# Altium schematic symbol library Amplify.SchLib: 6 symbols
Pins are listed as number, name and electrical type; pins without a type are passive.

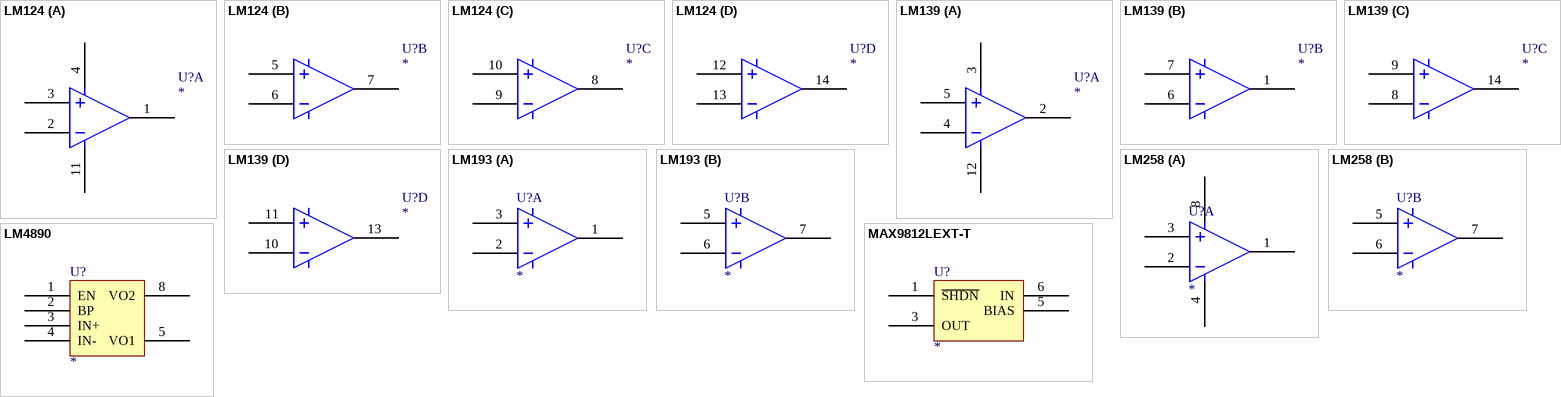
[diagram p0: symbols LM124 to MAX9812LEXT-T]

## LM124
designator U?
footprint DIP-14
part A pins: 1, 2, 3, 4, 11
part B pins: 5, 6, 7
part C pins: 8, 9, 10
part D pins: 12, 13, 14
2 alternate drawings of the same symbol

## LM139
designator U?
footprint DIP-14
part A pins: 2, 3, 4, 5, 12
part B pins: 1, 6, 7
part C pins: 8, 9, 14
part D pins: 10, 11, 13
2 alternate drawings of the same symbol

## LM193
designator U?
footprint DIP-8
part A pins: 1, 2, 3, 4 GND (power) hidden to GND, 8 VCC (power) hidden to VCC
part B pins: 5, 6, 7
2 alternate drawings of the same symbol

## LM258
designator U?
footprint DIP-8
footprint SOP-8
part A pins: 1, 2, 3, 4 GND (power) hidden to GND, 8 VCC (power) hidden to VCC
part B pins: 5, 6, 7
2 alternate drawings of the same symbol

## LM4890
designator U?
footprint SOP-8
pins: 1 EN, 2 BP, 3 IN+, 4 IN-, 5 VO1, 6 VCC hidden to VCC, 7 GND hidden to GND, 8 VO2
2 alternate drawings of the same symbol

## MAX9812LEXT-T
designator U?
footprint SC70-6
pins: 1 ~{SHDN}, 2 GND hidden to GND, 3 OUT, 4 VCC hidden to VCC, 5 BIAS, 6 IN
2 alternate drawings of the same symbol